# EAGLE library part MC14069 (library parts)
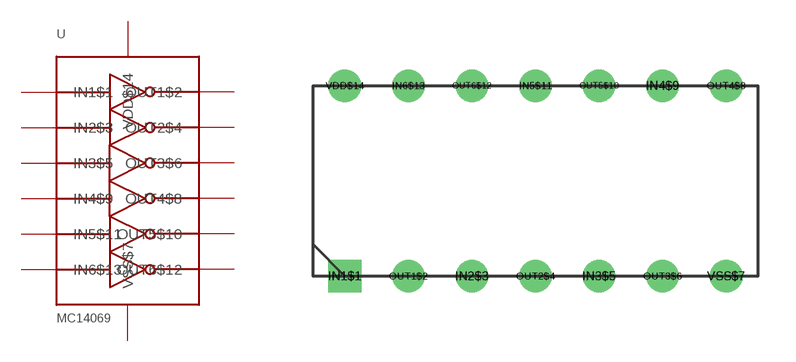
[diagram p1: symbol with the pads of PDIP-14; footprint PDIP-14]

Designator prefix -

## MC14069  [PDIP-14]
IN1$1  IN1$1
IN2$3  IN2$3
IN3$5  IN3$5
IN4$9  IN4$9
IN5$11  IN5$11
IN6$13  IN6$13
OUT1$2  OUT1$2
OUT2$4  OUT2$4
OUT3$6  OUT3$6
OUT4$8  OUT4$8
OUT5$10  OUT5$10
OUT6$12  OUT6$12
VDD$14  VDD$14
VSS$7  VSS$7

## Footprint PDIP-14 (pad centres in mm)
drill 0.8 square: IN1$1 -7.62,-3.81
drill 0.8 round: IN2$3 -2.54,-3.81; IN3$5 2.54,-3.81; IN4$9 5.08,3.81; IN5$11 0,3.81; IN6$13 -5.08,3.81; OUT1$2 -5.08,-3.81; OUT2$4 0,-3.81; OUT3$6 5.08,-3.81; OUT4$8 7.62,3.81; OUT5$10 2.54,3.81; OUT6$12 -2.54,3.81; VDD$14 -7.62,3.81; VSS$7 7.62,-3.81